# EAGLE library part TEENSY-3.2-1 (library uo_C_SE_Library)
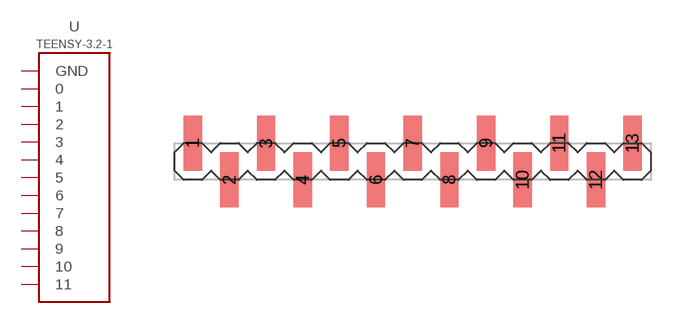
[diagram p6: symbol with the pads of SMD-0.1-1X13; footprint SMD-0.1-1X13]

Designator prefix -

## TEENSY-3.2-1 (MANUFACTURERPARTNUMBER: TSM-113-04-L-SV)  [SMD-0.1-1X13]
1  GND
2  0
3  1
4  2
5  3
6  4
7  5
8  6
9  7
10  8
11  9
12  10
13  11

## Footprint SMD-0.1-1X13 (pad centres in mm)
smd 1.27 x 3.81: 1 -16.51,1.27; 2 -13.97,-1.27; 3 -11.43,1.27; 4 -8.89,-1.27; 5 -6.35,1.27; 6 -3.81,-1.27; 7 -1.27,1.27; 8 1.27,-1.27; 9 3.81,1.27; 10 6.35,-1.27; 11 8.89,1.27; 12 11.43,-1.27; 13 13.97,1.27